# Altium footprint library WR-TBL_Rising Cage Clamp_10.16mm.PcbLib: 81 footprints (part 2 of 6)
Each footprint in its own frame and in the unit in brackets; x right, y up, seen from the top. Pads: shape width x height; smd on the part's side, far side on the other; paste and mask are expansions set on the pad; w line width, h text height; cw(c..) or ccw(c..) is an arc to the next point about the centre after c.
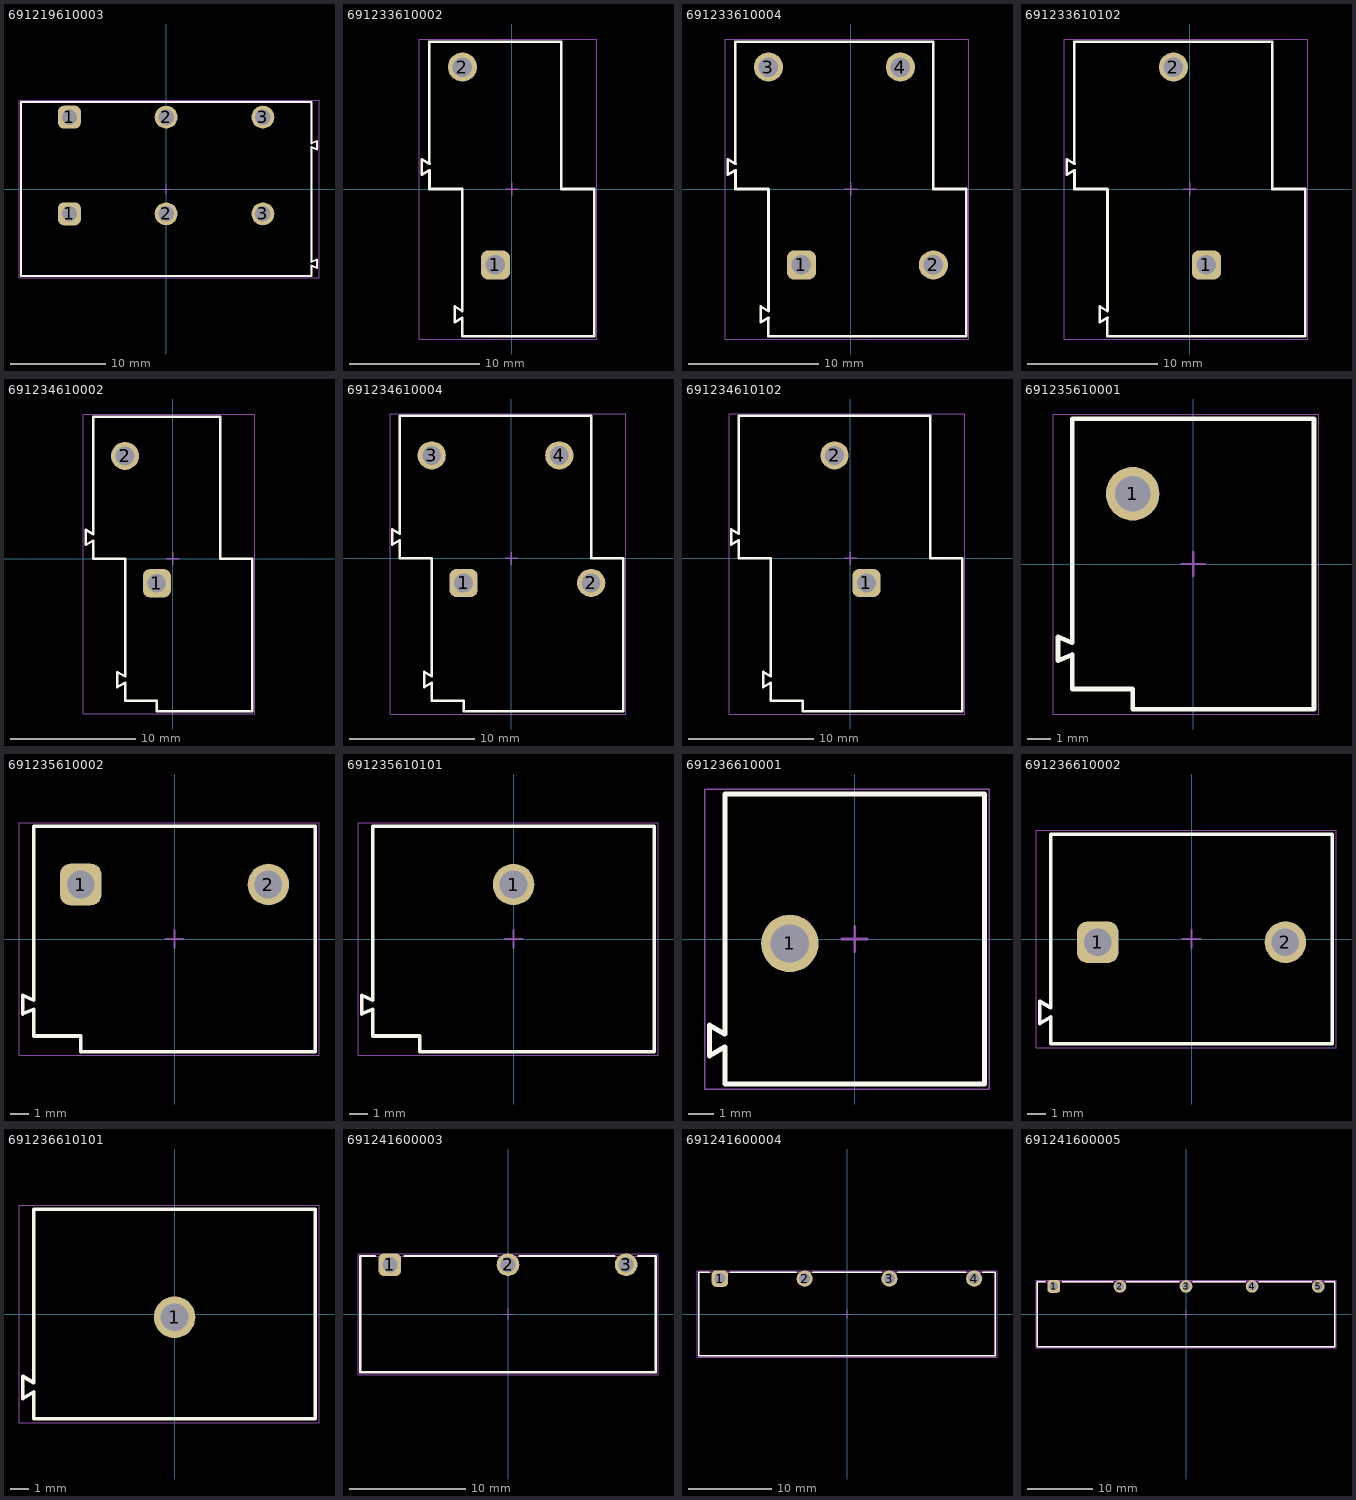
[diagram p1: the footprints below, top view; thin cyan lines are the x and y axes]

## 691219610003 [mm] "Serie 2196 - 10.16 mm Horizontal Entry Modular WR-TBL, 3 pin"
height 28.5
pads (6):
  rrect50% 2.4x2.4 hole 1.6: 1(-10.16,-2.61) 1(-10.16,7.55)
  round 2.4 hole 1.6: 2(0,-2.61) 2(0,7.55) 3(10.16,-2.61) 3(10.16,7.55)
Top Overlay:
  lines w0.2: 15.86,-8.301 15.26,-8.05 15.26,-9.15 -15.26,-9.15 -15.26,9.15 15.26,9.15 15.26,4.8 15.86,5.051 ; 15.86,-8.3 15.86,-7.4 15.26,-7.651 15.26,4.4 15.86,4.149 ; 15.86,4.15 15.86,5.05
Top Assembly:
  lines w0.1: 15.86,-8.301 15.26,-8.05 15.26,-9.15 -15.26,-9.15 -15.26,9.15 15.26,9.15 15.26,4.8 15.86,5.051 ; 15.86,-8.3 15.86,-7.4 15.26,-7.651 15.26,4.4 15.86,4.149 ; 15.86,4.15 15.86,5.05
Top Designator:
  text ".Designator" at -3.647,-0.357 h1
Top 3D Body:
  lines w0.1: 15.86,-8.301 15.26,-8.05 15.26,-9.15 -15.26,-9.15 -15.26,9.15 15.26,9.15 15.26,4.8 15.86,5.051 ; 15.86,-8.3 15.86,-7.4 15.26,-7.651 15.26,4.4 15.86,4.149 ; 15.86,4.15 15.86,5.05
Top Courtyard:
  lines w0.05: -15.46,-9.35 16.06,-9.35 16.06,9.35 -15.46,9.35 -15.46,-9.35
Top Component Center:
  lines w0.1: -0.5,0 0.5,0 ; 0,-0.5 0,0.5
3D body "691219610003.stp": height 28.6, standoff -4.5, extent -15.26,-9.15 15.82,9.15

## 691233610002 [mm] "Horizontal Cable Entry with Rising Cage Clamp, pitch 10.16mm, 02p"
height 31.5
pads (2):
  rrect50% 2.25x2.25 hole 1.5: 1(-1.27,-5.85)
  round 2.25 hole 1.5: 2(-3.81,9.39)
Top Overlay:
  lines w0.2: -6.35,0 -3.81,0 ; -6.35,1.956 -6.35,11.35 3.81,11.35 3.81,0 6.35,0 6.35,-11.35 -3.81,-11.35 -3.81,-9.906 ; -6.348,0.002 -6.348,1.446 -6.95,1.1 -6.95,2.3 -6.348,1.954 ; -3.808,-9.904 -4.41,-10.25 -4.41,-9.05 -3.808,-9.396 -3.808,-0.002
Top Assembly:
  lines w0.1: -6.35,0 -3.81,0 ; -6.35,1.956 -6.35,11.35 3.81,11.35 3.81,0 6.35,0 6.35,-11.35 -3.81,-11.35 -3.81,-9.906 ; -6.348,0.002 -6.348,1.446 -6.95,1.1 -6.95,2.3 -6.348,1.954 ; -3.808,-9.904 -4.41,-10.25 -4.41,-9.05 -3.808,-9.396 -3.808,-0.002
Top Designator:
  text ".Designator" at -3.647,-0.357 h1
Top 3D Body:
  lines w0.1: -6.35,0 -3.81,0 ; -6.35,1.956 -6.35,11.35 3.81,11.35 3.81,0 6.35,0 6.35,-11.35 -3.81,-11.35 -3.81,-9.906 ; -6.348,0.002 -6.348,1.446 -6.95,1.1 -6.95,2.3 -6.348,1.954 ; -3.808,-9.904 -4.41,-10.25 -4.41,-9.05 -3.808,-9.396 -3.808,-0.002
Top Courtyard:
  lines w0.05: -7.15,-11.55 -7.15,11.55 6.55,11.55 6.55,-11.55 -7.15,-11.55
Top Component Center:
  lines w0.1: -0.5,0 0.5,0 ; 0,-0.5 0,0.5
3D body "691233610002.stp": height 31.6, standoff -3.9, extent -6.95,-11.35 6.35,11.35

## 691233610004 [mm] "Horizontal Cable Entry with Rising Cage Clamp, pitch 10.16mm, 04p"
height 31.5
pads (4):
  rrect50% 2.25x2.25 hole 1.5: 1(-3.81,-5.85)
  round 2.25 hole 1.5: 2(6.35,-5.85) 3(-6.35,9.39) 4(3.81,9.39)
Top Overlay:
  lines w0.2: -8.89,0 -6.35,0 ; -8.89,1.956 -8.89,11.35 6.35,11.35 6.35,0 8.89,0 8.89,-11.35 -6.35,-11.35 -6.35,-9.906 ; -8.888,0.002 -8.888,1.446 -9.49,1.1 -9.49,2.3 -8.888,1.954 ; -6.348,-9.904 -6.95,-10.25 -6.95,-9.05 -6.348,-9.396 -6.348,-0.002
Top Assembly:
  lines w0.1: -8.89,0 -6.35,0 ; -8.89,1.956 -8.89,11.35 6.35,11.35 6.35,0 8.89,0 8.89,-11.35 -6.35,-11.35 -6.35,-9.906 ; -8.888,0.002 -8.888,1.446 -9.49,1.1 -9.49,2.3 -8.888,1.954 ; -6.348,-9.904 -6.95,-10.25 -6.95,-9.05 -6.348,-9.396 -6.348,-0.002
Top Designator:
  text ".Designator" at -3.647,-0.357 h1
Top 3D Body:
  lines w0.1: -8.89,0 -6.35,0 ; -8.89,1.956 -8.89,11.35 6.35,11.35 6.35,0 8.89,0 8.89,-11.35 -6.35,-11.35 -6.35,-9.906 ; -8.888,0.002 -8.888,1.446 -9.49,1.1 -9.49,2.3 -8.888,1.954 ; -6.348,-9.904 -6.95,-10.25 -6.95,-9.05 -6.348,-9.396 -6.348,-0.002
Top Courtyard:
  lines w0.05: -9.69,-11.55 -9.69,11.55 9.09,11.55 9.09,-11.55 -9.69,-11.55
Top Component Center:
  lines w0.1: -0.5,0 0.5,0 ; 0,-0.5 0,0.5
3D body "691233610004.stp": height 31.6, standoff -3.9, extent -9.49,-11.35 8.89,11.35

## 691233610102 [mm] "Horizontal Cable Entry with Rising Cage Clamp, pitch 10.16mm, 02p"
height 31.5
pads (2):
  rrect50% 2.25x2.25 hole 1.5: 1(1.27,-5.85)
  round 2.25 hole 1.5: 2(-1.27,9.39)
Top Overlay:
  lines w0.2: -8.89,0 -6.35,0 ; -8.89,1.956 -8.89,11.35 6.35,11.35 6.35,0 8.89,0 8.89,-11.35 -6.35,-11.35 -6.35,-9.906 ; -8.888,0.002 -8.888,1.446 -9.49,1.1 -9.49,2.3 -8.888,1.954 ; -6.348,-9.904 -6.95,-10.25 -6.95,-9.05 -6.348,-9.396 -6.348,-0.002
Top Assembly:
  lines w0.1: -8.89,0 -6.35,0 ; -8.89,1.956 -8.89,11.35 6.35,11.35 6.35,0 8.89,0 8.89,-11.35 -6.35,-11.35 -6.35,-9.906 ; -8.888,0.002 -8.888,1.446 -9.49,1.1 -9.49,2.3 -8.888,1.954 ; -6.348,-9.904 -6.95,-10.25 -6.95,-9.05 -6.348,-9.396 -6.348,-0.002
Top Designator:
  text ".Designator" at -3.647,-0.357 h1
Top 3D Body:
  lines w0.1: -8.89,0 -6.35,0 ; -8.89,1.956 -8.89,11.35 6.35,11.35 6.35,0 8.89,0 8.89,-11.35 -6.35,-11.35 -6.35,-9.906 ; -8.888,0.002 -8.888,1.446 -9.49,1.1 -9.49,2.3 -8.888,1.954 ; -6.348,-9.904 -6.95,-10.25 -6.95,-9.05 -6.348,-9.396 -6.348,-0.002
Top Courtyard:
  lines w0.05: -9.69,-11.55 9.09,-11.55 9.09,11.55 -9.69,11.55 -9.69,-11.55
Top Component Center:
  lines w0.1: -0.5,0 0.5,0 ; 0,-0.5 0,0.5
3D body "691233610102.stp": height 31.6, standoff -3.9, extent -9.49,-11.35 8.89,11.35

## 691234610002 [mm] "Horizontal Cable Entry with Rising Cage Clamp, pitch 10.16mm, 02p"
height 45
pads (2):
  rrect50% 2.25x2.25 hole 1.5: 1(-1.27,-1.96)
  round 2.25 hole 1.5: 2(-3.81,8.2)
Top Overlay:
  lines w0.2: -6.952,1.1 -6.35,1.446 -6.35,0 -3.81,0 -3.81,-9.396 -4.412,-9.05 -4.412,-10.25 -3.81,-9.904 -3.81,-11.35 -1.27,-11.35 -1.27,-12.2 6.35,-12.2 6.35,0 3.81,0 3.81,11.35 -6.35,11.35 -6.35,1.954 -6.952,2.3 -6.952,1.1
Top Assembly:
  lines w0.1: -6.952,1.1 -6.952,2.3 -6.35,1.954 -6.35,11.35 3.81,11.35 3.81,0 6.35,0 6.35,-12.2 -1.27,-12.2 -1.27,-11.35 -3.81,-11.35 -3.81,-9.904 -4.412,-10.25 -4.412,-9.05 -3.81,-9.396 -3.81,0 -6.35,0 -6.35,1.446 -6.952,1.1
Top Designator:
  text ".Designator" at -3.647,-0.357 h1
Top 3D Body:
  lines w0.1: -6.952,1.1 -6.35,1.446 -6.35,0 -3.81,0 -3.81,-9.396 -4.412,-9.05 -4.412,-10.25 -3.81,-9.904 -3.81,-11.35 -1.27,-11.35 -1.27,-12.2 6.35,-12.2 6.35,0 3.81,0 3.81,11.35 -6.35,11.35 -6.35,1.954 -6.952,2.3 -6.952,1.1
Top Courtyard:
  lines w0.05: -7.15,-12.4 -7.15,11.55 6.55,11.55 6.55,-12.4 -7.15,-12.4
Top Component Center:
  lines w0.1: -0.5,0 0.5,0 ; 0,-0.5 0,0.5
3D body "691234610002.stp": height 45.1, standoff -3.9, extent -6.95,-12.2 6.35,11.35

## 691234610004 [mm] "Horizontal Cable Entry with Rising Cage Clamp, pitch 10.16mm, 04p"
height 45
pads (4):
  rrect50% 2.25x2.25 hole 1.5: 1(-3.81,-1.96)
  round 2.25 hole 1.5: 2(6.35,-1.96) 3(-6.35,8.2) 4(3.81,8.2)
Top Overlay:
  lines w0.2: -9.492,1.1 -9.492,2.3 -8.89,1.954 -8.89,11.35 6.35,11.35 6.35,0 8.89,0 8.89,-12.2 -3.81,-12.2 -3.81,-11.35 -6.35,-11.35 -6.35,-9.904 -6.952,-10.25 -6.952,-9.05 -6.35,-9.396 -6.35,0 -8.89,0 -8.89,1.446 -9.492,1.1
Top Assembly:
  lines w0.1: -9.492,1.1 -8.89,1.446 -8.89,0 -6.35,0 -6.35,-9.396 -6.952,-9.05 -6.952,-10.25 -6.35,-9.904 -6.35,-11.35 -3.81,-11.35 -3.81,-12.2 8.89,-12.2 8.89,0 6.35,0 6.35,11.35 -8.89,11.35 -8.89,1.954 -9.492,2.3 -9.492,1.1
Top Designator:
  text ".Designator" at -3.647,-0.357 h1
Top 3D Body:
  lines w0.1: -9.492,1.1 -9.492,2.3 -8.89,1.954 -8.89,11.35 6.35,11.35 6.35,0 8.89,0 8.89,-12.2 -3.81,-12.2 -3.81,-11.35 -6.35,-11.35 -6.35,-9.904 -6.952,-10.25 -6.952,-9.05 -6.35,-9.396 -6.35,0 -8.89,0 -8.89,1.446 -9.492,1.1
Top Courtyard:
  lines w0.05: -9.64,-12.4 9.09,-12.4 9.09,11.5 -9.64,11.5 -9.64,-12.4
Top Component Center:
  lines w0.1: -0.5,0 0.5,0 ; 0,-0.5 0,0.5
3D body "691234610004.stp": height 45.1, standoff -3.9, extent -9.49,-12.2 8.89,11.35

## 691234610102 [mm] "Horizontal Cable Entry with Rising Cage Clamp, pitch 10.16mm, 02p"
height 45
pads (2):
  rrect50% 2.25x2.25 hole 1.5: 1(1.27,-1.96)
  round 2.25 hole 1.5: 2(-1.27,8.2)
Top Overlay:
  lines w0.2: -9.492,1.1 -9.492,2.3 -8.89,1.954 -8.89,11.35 6.35,11.35 6.35,0 8.89,0 8.89,-12.2 -3.81,-12.2 -3.81,-11.35 -6.35,-11.35 -6.35,-9.904 -6.952,-10.25 -6.952,-9.05 -6.35,-9.396 -6.35,0 -8.89,0 -8.89,1.446 -9.492,1.1
Top Assembly:
  lines w0.1: -9.492,1.1 -8.89,1.446 -8.89,0 -6.35,0 -6.35,-9.396 -6.952,-9.05 -6.952,-10.25 -6.35,-9.904 -6.35,-11.35 -3.81,-11.35 -3.81,-12.2 8.89,-12.2 8.89,0 6.35,0 6.35,11.35 -8.89,11.35 -8.89,1.954 -9.492,2.3 -9.492,1.1
Top Designator:
  text ".Designator" at -3.647,-0.357 h1
Top 3D Body:
  lines w0.1: -9.492,1.1 -9.492,2.3 -8.89,1.954 -8.89,11.35 6.35,11.35 6.35,0 8.89,0 8.89,-12.2 -3.81,-12.2 -3.81,-11.35 -6.35,-11.35 -6.35,-9.904 -6.952,-10.25 -6.952,-9.05 -6.35,-9.396 -6.35,0 -8.89,0 -8.89,1.446 -9.492,1.1
Top Courtyard:
  lines w0.05: -9.64,-12.4 9.09,-12.4 9.09,11.5 -9.64,11.5 -9.64,-12.4
Top Component Center:
  lines w0.1: -0.5,0 0.5,0 ; 0,-0.5 0,0.5
3D body "691234610102.stp": height 45.1, standoff -3.9, extent -9.49,-12.2 8.89,11.35

## 691235610001 [mm] "Horizontal Cable Entry with Rising Cage Clamp, pitch 10.16mm, 01p"
height 45
pads (1):
  round 2.25 hole 1.5: 1(-2.54,2.95)
Top Overlay:
  lines w0.2: -5.081,-3.805 -5.68,-4.057 -5.68,-3.057 -5.081,-3.309 -5.081,6.099 ; -5.08,-3.807 -5.08,-5.25 -2.54,-5.25 -2.54,-6.1 5.08,-6.1 5.08,6.1 -5.08,6.1
Top Assembly:
  lines w0.1: -5.081,-3.805 -5.68,-4.057 -5.68,-3.057 -5.081,-3.309 -5.081,6.099 ; -5.08,-3.807 -5.08,-5.25 -2.54,-5.25 -2.54,-6.1 5.08,-6.1 5.08,6.1 -5.08,6.1
Top Designator:
  text ".Designator" at -3.647,-0.357 h1
Top 3D Body:
  lines w0.1: -5.081,-3.805 -5.68,-4.057 -5.68,-3.057 -5.081,-3.309 -5.081,6.099 ; -5.08,-3.807 -5.08,-5.25 -2.54,-5.25 -2.54,-6.1 5.08,-6.1 5.08,6.1 -5.08,6.1
Top Courtyard:
  lines w0.05: -5.88,-6.3 5.28,-6.3 5.28,6.3 -5.88,6.3 -5.88,-6.3
Top Component Center:
  lines w0.1: -0.5,0 0.5,0 ; 0,-0.5 0,0.5
3D body "691235610001.stp": height 45.1, standoff -3.9, extent -5.68,-6.1 5.08,6.1

## 691235610002 [mm] "Horizontal Cable Entry with Rising Cage Clamp, pitch 10.16mm, 02p"
height 45
pads (2):
  rrect50% 2.25x2.25 hole 1.5: 1(-5.08,2.95)
  round 2.25 hole 1.5: 2(5.08,2.95)
Top Overlay:
  lines w0.2: -7.621,-3.805 -8.22,-4.057 -8.22,-3.057 -7.621,-3.309 -7.621,6.099 ; -7.62,-3.807 -7.62,-5.25 -5.08,-5.25 -5.08,-6.1 7.62,-6.1 7.62,6.1 -7.62,6.1
Top Assembly:
  lines w0.1: -7.621,-3.805 -8.22,-4.057 -8.22,-3.057 -7.621,-3.309 -7.621,6.099 ; -7.62,-3.807 -7.62,-5.25 -5.08,-5.25 -5.08,-6.1 7.62,-6.1 7.62,6.1 -7.62,6.1
Top Designator:
  text ".Designator" at -3.647,-0.357 h1
Top 3D Body:
  lines w0.1: -7.621,-3.805 -8.22,-4.057 -8.22,-3.057 -7.621,-3.309 -7.621,6.099 ; -7.62,-3.807 -7.62,-5.25 -5.08,-5.25 -5.08,-6.1 7.62,-6.1 7.62,6.1 -7.62,6.1
Top Courtyard:
  lines w0.05: -8.42,-6.3 7.82,-6.3 7.82,6.3 -8.42,6.3 -8.42,-6.3
Top Component Center:
  lines w0.1: -0.5,0 0.5,0 ; 0,-0.5 0,0.5
3D body "691235610002.stp": height 45.1, standoff -3.9, extent -8.22,-6.1 7.62,6.1

## 691235610101 [mm] "Horizontal Cable Entry with Rising Cage Clamp, pitch 10.16mm, 01p"
height 45
pads (1):
  round 2.25 hole 1.5: 1(0,2.95)
Top Overlay:
  lines w0.2: -7.621,-3.805 -8.22,-4.057 -8.22,-3.057 -7.621,-3.309 -7.621,6.099 ; -7.62,-3.807 -7.62,-5.25 -5.08,-5.25 -5.08,-6.1 7.62,-6.1 7.62,6.1 -7.62,6.1
Top Assembly:
  lines w0.1: -7.621,-3.805 -8.22,-4.057 -8.22,-3.057 -7.621,-3.309 -7.621,6.099 ; -7.62,-3.807 -7.62,-5.25 -5.08,-5.25 -5.08,-6.1 7.62,-6.1 7.62,6.1 -7.62,6.1
Top Designator:
  text ".Designator" at -3.647,-0.357 h1
Top 3D Body:
  lines w0.1: -7.621,-3.805 -8.22,-4.057 -8.22,-3.057 -7.621,-3.309 -7.621,6.099 ; -7.62,-3.807 -7.62,-5.25 -5.08,-5.25 -5.08,-6.1 7.62,-6.1 7.62,6.1 -7.62,6.1
Top Courtyard:
  lines w0.05: -8.42,-6.3 7.82,-6.3 7.82,6.3 -8.42,6.3 -8.42,-6.3
Top Component Center:
  lines w0.1: -0.5,0 0.5,0 ; 0,-0.5 0,0.5
3D body "691235610101.stp": height 45.1, standoff -3.9, extent -8.22,-6.1 7.62,6.1

## 691236610001 [mm] "Horizontal Cable Entry with Rising Cage Clamp, pitch 10.16mm, 01p"
height 18
pads (1):
  round 2.25 hole 1.5: 1(-2.54,-0.175)
Top Overlay:
  lines w0.2: -5.081,-4.223 -5.68,-4.575 -5.68,-3.375 -5.081,-3.727 -5.081,5.674 ; -5.08,-4.225 -5.08,-5.675 5.08,-5.675 5.08,5.675 -5.08,5.675
Top Assembly:
  lines w0.1: -5.081,-4.223 -5.68,-4.575 -5.68,-3.375 -5.081,-3.727 -5.081,5.674 ; -5.08,-4.225 -5.08,-5.675 5.08,-5.675 5.08,5.675 -5.08,5.675
Top Designator:
  text ".Designator" at -3.647,-0.357 h1
Top 3D Body:
  lines w0.1: -5.081,-4.223 -5.68,-4.575 -5.68,-3.375 -5.081,-3.727 -5.081,5.674 ; -5.08,-4.225 -5.08,-5.675 5.08,-5.675 5.08,5.675 -5.08,5.675
Top Courtyard:
  lines w0.05: -5.88,-5.875 5.28,-5.875 5.28,5.875 -5.88,5.875 -5.88,-5.875
Top Component Center:
  lines w0.1: -0.5,0 0.5,0 ; 0,-0.5 0,0.5
3D body "691236610001.stp": height 18.1, standoff -3.9, extent -5.68,-5.675 5.08,5.675

## 691236610002 [mm] "Horizontal Cable Entry with Rising Cage Clamp, pitch 10.16mm, 02p"
height 18
pads (2):
  rrect50% 2.25x2.25 hole 1.5: 1(-5.08,-0.175)
  round 2.25 hole 1.5: 2(5.08,-0.175)
Top Overlay:
  lines w0.2: -7.621,-4.223 -8.22,-4.575 -8.22,-3.375 -7.621,-3.727 -7.621,5.674 ; -7.62,-4.225 -7.62,-5.675 7.62,-5.675 7.62,5.675 -7.62,5.675
Top Assembly:
  lines w0.1: -7.621,-4.223 -8.22,-4.575 -8.22,-3.375 -7.621,-3.727 -7.621,5.674 ; -7.62,-4.225 -7.62,-5.675 7.62,-5.675 7.62,5.675 -7.62,5.675
Top Designator:
  text ".Designator" at -3.647,-0.357 h1
Top 3D Body:
  lines w0.1: -7.621,-4.223 -8.22,-4.575 -8.22,-3.375 -7.621,-3.727 -7.621,5.674 ; -7.62,-4.225 -7.62,-5.675 7.62,-5.675 7.62,5.675 -7.62,5.675
Top Courtyard:
  lines w0.05: -8.42,-5.875 7.82,-5.875 7.82,5.875 -8.42,5.875 -8.42,-5.875
Top Component Center:
  lines w0.1: -0.5,0 0.5,0 ; 0,-0.5 0,0.5
3D body "691236610002.stp": height 18.1, standoff -3.9, extent -8.22,-5.675 7.62,5.675

## 691236610101 [mm] "Horizontal Cable Entry with Rising Cage Clamp, pitch 10.16mm, 01p"
height 18
pads (1):
  round 2.25 hole 1.5: 1(0,-0.175)
Top Overlay:
  lines w0.2: -7.621,-4.223 -8.22,-4.575 -8.22,-3.375 -7.621,-3.727 -7.621,5.674 ; -7.62,-4.225 -7.62,-5.675 7.62,-5.675 7.62,5.675 -7.62,5.675
Top Assembly:
  lines w0.1: -7.621,-4.223 -8.22,-4.575 -8.22,-3.375 -7.621,-3.727 -7.621,5.674 ; -7.62,-4.225 -7.62,-5.675 7.62,-5.675 7.62,5.675 -7.62,5.675
Top Designator:
  text ".Designator" at -3.647,-0.357 h1
Top 3D Body:
  lines w0.1: -7.621,-4.223 -8.22,-4.575 -8.22,-3.375 -7.621,-3.727 -7.621,5.674 ; -7.62,-4.225 -7.62,-5.675 7.62,-5.675 7.62,5.675 -7.62,5.675
Top Courtyard:
  lines w0.05: -8.42,-5.875 -8.42,5.875 7.82,5.875 7.82,-5.875 -8.42,-5.875
Top Component Center:
  lines w0.1: -0.5,0 0.5,0 ; 0,-0.5 0,0.5
3D body "691236610101.stp": height 18.1, standoff -3.9, extent -8.22,-5.675 7.62,5.675

## 691241600003 [mm] "Vertical Cable Entry with Rising Cage Clamp, pitch 10.16mm, 03p"
height 8.1
pads (3):
  rrect50% 1.95x1.95 hole 1.3: 1(-10.16,4.25)
  round 1.95 hole 1.3: 2(0,4.25) 3(10.16,4.25)
Top Overlay:
  lines w0.2: -11.45,5 -12.7,5 -12.7,-5 12.7,-5 12.7,5 11.2,5 ; -8.9,5 -1,5 ; 1,5 9.15,5
Top Assembly:
  lines w0.1: -12.7,-5 -12.7,5 12.7,5 12.7,-5 -12.7,-5
Top Designator:
  text ".Designator" at -3.647,-0.357 h1
Top 3D Body:
  lines w0.1: -12.7,-5 12.7,-5 12.7,5 -12.7,5 -12.7,-5
Top Courtyard:
  lines w0.05: -12.9,-5.2 -12.9,5.2 12.9,5.2 12.9,-5.2 -12.9,-5.2
Top Component Center:
  lines w0.1: -0.5,0 0.5,0 ; 0,-0.5 0,0.5
3D body "691241600003.stp": height 8.2, standoff -3.4, extent -12.7,-5 12.7,5

## 691241600004 [mm] "Vertical Cable Entry with Rising Cage Clamp, pitch 10.16mm, 04p"
height 8.1
pads (4):
  rrect50% 1.95x1.95 hole 1.3: 1(-15.24,4.25)
  round 1.95 hole 1.3: 2(-5.08,4.25) 3(5.08,4.25) 4(15.24,4.25)
Top Overlay:
  lines w0.2: -16.53,5 -17.78,5 -17.78,-5 17.78,-5 17.78,5 16.28,5 ; -13.98,5 -6.08,5 ; -4.08,5 4.07,5 ; 6.08,5 14.23,5
Top Assembly:
  lines w0.1: -17.78,-5 -17.78,5 17.78,5 17.78,-5 -17.78,-5
Top Designator:
  text ".Designator" at -3.647,-0.357 h1
Top 3D Body:
  lines w0.1: -17.78,-5 17.78,-5 17.78,5 -17.78,5 -17.78,-5
Top Courtyard:
  lines w0.05: -17.98,-5.2 -17.98,5.2 17.98,5.2 17.98,-5.2 -17.98,-5.2
Top Component Center:
  lines w0.1: -0.5,0 0.5,0 ; 0,-0.5 0,0.5
3D body "691241600004.stp": height 8.2, standoff -3.4, extent -17.78,-5 17.78,5

## 691241600005 [mm] "Vertical Cable Entry with Rising Cage Clamp, pitch 10.16mm, 05p"
height 8.1
pads (5):
  rrect50% 1.95x1.95 hole 1.3: 1(-20.32,4.25)
  round 1.95 hole 1.3: 2(-10.16,4.25) 3(0,4.25) 4(10.16,4.25) 5(20.32,4.25)
Top Overlay:
  lines w0.2: -21.61,5 -22.86,5 -22.86,-5 22.86,-5 22.86,5 21.36,5 ; -19.06,5 -11.16,5 ; -9.16,5 -1.01,5 ; 1,5 9.15,5 ; 11.16,5 19.31,5
Top Assembly:
  lines w0.1: -22.86,-5 -22.86,5 22.86,5 22.86,-5 -22.86,-5
Top Designator:
  text ".Designator" at -3.647,-0.357 h1
Top 3D Body:
  lines w0.1: -22.86,-5 22.86,-5 22.86,5 -22.86,5 -22.86,-5
Top Courtyard:
  lines w0.05: -23.06,-5.2 -23.06,5.2 23.06,5.2 23.06,-5.2 -23.06,-5.2
Top Component Center:
  lines w0.1: -0.5,0 0.5,0 ; 0,-0.5 0,0.5
3D body "691241600005.stp": height 8.2, standoff -3.4, extent -22.86,-5 22.86,5